# Altium schematic symbol library HPA01164RUTR.SchLib: 1 symbol
Pins are listed as number, name and electrical type; pins without a type are passive.

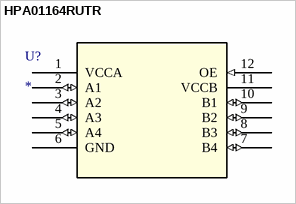
[diagram p0: symbol HPA01164RUTR]

## HPA01164RUTR
designator U?
No Description Available; Mfr_Name: Texas Instruments; RefDes: RefDes; Type: Type
footprint RUT12 (Footprint not found)
pins: 1 VCCA (power), 2 A1 (io), 3 A2 (io), 4 A3 (io), 5 A4 (io), 6 GND (power), 7 B4 (io), 8 B3 (io), 9 B2 (io), 10 B1 (io), 11 VCCB (power), 12 OE (in)